# Altium footprint library Universal Device.PcbLib: 24 footprints (part 1 of 2)
Each footprint in its own frame and in the unit in brackets; x right, y up, seen from the top. Pads: shape width x height; smd on the part's side, far side on the other; paste and mask are expansions set on the pad; w line width, h text height; cw(c..) or ccw(c..) is an arc to the next point about the centre after c.
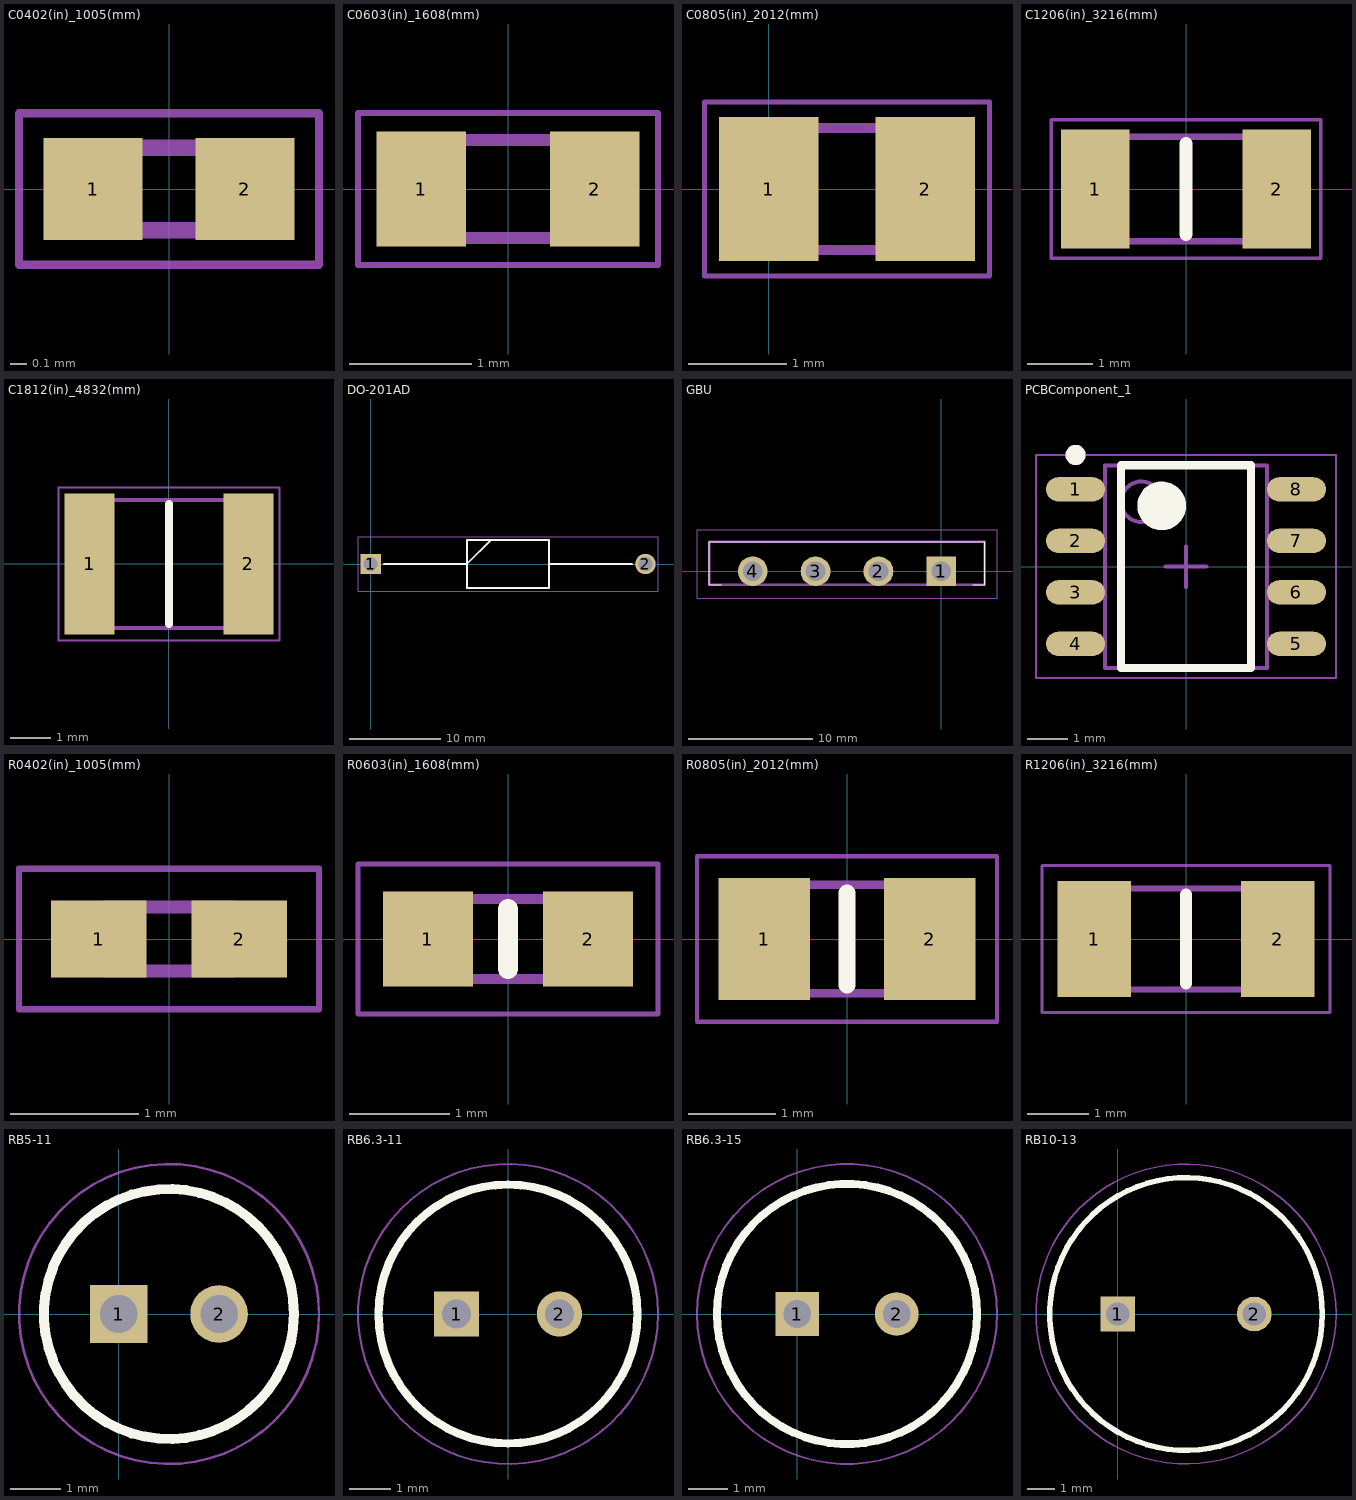
[diagram p0: the footprints below, top view; thin cyan lines are the x and y axes]

## C0402(in)_1005(mm) [mm]
pads (2):
  rect 0.6x0.62 smd: 1(-0.46,0) 2(0.46,0)
Mechanical 13:
  lines w0.1: -0.5,-0.25 -0.5,0.25 0.5,0.25 0.5,-0.25 -0.5,-0.25
Mechanical 15:
  lines w0.05: -0.91,-0.46 -0.91,0.46 0.91,0.46 0.91,-0.46 -0.91,-0.46
3D body "GRM155R61C225KE44D.stp": height 0.55, standoff 0, extent -0.5,-0.25 0.5,0.25

## C0603(in)_1608(mm) [mm]
pads (2):
  rect 0.73x0.94 smd: 1(-0.71,0) 2(0.71,0)
Mechanical 13:
  lines w0.1: -0.8,-0.4 0.8,-0.4 0.8,0.4 -0.8,0.4 -0.8,-0.4
Mechanical 15:
  lines w0.05: -1.225,-0.62 1.225,-0.62 1.225,0.62 -1.225,0.62 -1.225,-0.62
3D body "CL10A105KB8NNNC.stp": height 0.9, standoff 0, extent -0.8,-0.4 0.8,0.4

## C0805(in)_2012(mm) [mm]
pads (2):
  rect 1.02x1.47 smd: 1(0,0) 2(1.6,0)
Mechanical 13:
  lines w0.1: -0.2,-0.625 -0.2,0.625 1.8,0.625 1.8,-0.625 -0.2,-0.625
Mechanical 15:
  lines w0.05: -0.66,-0.89 -0.66,0.89 2.26,0.89 2.26,-0.89 -0.66,-0.89
3D body "C0805C752G3GACTU.stp": height 0.88, standoff 0, extent -0.3,-0.73 1.9,0.72

## C1206(in)_3216(mm) [mm]
pads (2):
  rect 1.05x1.82 smd: 1(-1.39,0) 2(1.39,0)
Top Overlay:
  lines w0.2: 0,-0.7 0,0.7
Mechanical 13:
  lines w0.1: -1.6,-0.8 1.6,-0.8 1.6,0.8 -1.6,0.8 -1.6,-0.8
Mechanical 15:
  lines w0.05: -2.065,-1.06 2.065,-1.06 2.065,1.06 -2.065,1.06 -2.065,-1.06
3D body "CL31B106KBHNNNE.stp": height 1.8, standoff 0, extent -1.6,-0.8 1.6,0.8

## C1812(in)_4832(mm) [mm]
pads (2):
  rect 1.25x3.52 smd: 1(-1.98,0) 2(1.98,0)
Top Overlay:
  lines w0.2: 0,-1.5 0,1.5
Mechanical 13:
  lines w0.1: -2.25,-1.6 -2.25,1.6 2.25,1.6 2.25,-1.6 -2.25,-1.6
Mechanical 15:
  lines w0.05: -2.755,-1.91 -2.755,1.91 2.755,1.91 2.755,-1.91 -2.755,-1.91
3D body "C1812C204KAGLCAUTO.stp": height 0, standoff -3.5, extent -2.4,-2.214 2.4,2.286

## DO-201AD [mm]
pads (2):
  rect 2.25x2.25 hole 1.5: 1(0,0)
  round 2.25 hole 1.5: 2(30.2,0)
Top Overlay:
  lines w0.2: 1.475,0 10.59,0 13.24,2.65 ; 19.61,0 28.725,0 ; 10.59,-2.65 19.61,-2.65 19.61,2.65 10.59,2.65 10.59,-2.65
Mechanical 13:
  lines w0.1: 0,0 10.59,0 13.24,2.65 ; 19.61,0 30.2,0 ; 10.59,-2.65 19.61,-2.65 19.61,2.65 10.59,2.65 10.59,-2.65
Mechanical 15:
  lines w0.05: -1.375,-3 31.575,-3 31.575,3 -1.375,3 -1.375,-3
3D body "1N5408-G.stp": height 5.6, standoff -5.6, extent -0.655,-2.797 30.88,2.797

## GBU [mm]
pads (4):
  rect 2.4x2.4 hole 1.6: 1(0,0)
  round 2.4 hole 1.6: 2(-5.08,0) 3(-10.16,0) 4(-15.24,0)
Top Overlay:
  lines w0.1: -17.78,-1.08 -18.745,-1.08 -18.745,2.37 3.505,2.37 3.505,-1.08 2.54,-1.08
Mechanical 13:
  lines w0.2: -18.745,-1.08 -18.745,2.37 3.505,2.37 3.505,-1.08 -18.745,-1.08
Mechanical 15:
  lines w0.1: -19.745,-2.2 -19.745,3.37 4.505,3.37 4.505,-2.2 -19.745,-2.2
3D body "GBU8K-BP.stp": height 18.9, standoff -5, extent -18.745,-1.08 3.505,2.37

## PCBComponent_1 [mm]
pads (8):
  oval 1.45x0.6 smd: 1(-2.725,1.905) 2(-2.725,0.635) 3(-2.725,-0.635) 4(-2.725,-1.905) 5(2.725,-1.905) 6(2.725,-0.635) 7(2.725,0.635) 8(2.725,1.905)
Top Overlay:
  circle w0.25: c-2.725,2.755 r0.125
  circle w0.6: c-0.6,1.5 r0.3
  lines w0.2: -1.6,-2.5 -1.6,2.5 1.6,2.5 1.6,-2.5 -1.6,-2.5
Bottom 3D Body:
  lines w0.05: -3.7,-2.75 -3.7,2.75 3.7,2.75 3.7,-2.75 -3.7,-2.75
  lines w0.1: -0.5,0 0.5,0 ; 0,-0.5 0,0.5
Top Assembly:
  circle w0.1: c-1.1,1.6 r0.5
  lines w0.1: -2,-2.5 -2,2.5 2,2.5 2,-2.5 -2,-2.5
3D body "SOIC127P600X175-8N.step": height 1.75, standoff 0, extent -3,-2.5 3,2.5

## R0402(in)_1005(mm) [mm]
pads (2):
  rect 0.75x0.6 smd: 1(-0.55,0) 2(0.55,0)
Mechanical 13:
  lines w0.1: -0.5,-0.25 0.5,-0.25 0.5,0.25 -0.5,0.25 -0.5,-0.25
Mechanical 15:
  lines w0.05: -1.175,-0.55 1.175,-0.55 1.175,0.55 -1.175,0.55 -1.175,-0.55
3D body "RC0402FR-0710KL.stp": height 0.4, standoff 0, extent -0.5,-0.25 0.5,0.25

## R0603(in)_1608(mm) [mm]
pads (2):
  rect 0.9x0.95 smd: 1(-0.8,0) 2(0.8,0)
Top Overlay:
  lines w0.2: 0,-0.3 0,0.3
Mechanical 13:
  lines w0.1: -0.8,-0.4 0.8,-0.4 0.8,0.4 -0.8,0.4 -0.8,-0.4
Mechanical 15:
  lines w0.05: -1.5,-0.75 1.5,-0.75 1.5,0.75 -1.5,0.75 -1.5,-0.75
3D body "CHV0603-FX-1003EST.stp": height 0.55, standoff 0, extent -0.8,-0.4 0.8,0.4

## R0805(in)_2012(mm) [mm]
pads (2):
  rect 1.05x1.4 smd: 1(-0.95,0) 2(0.95,0)
Top Overlay:
  lines w0.2: 0,-0.525 0,0.525
Mechanical 13:
  lines w0.1: -1,-0.625 1,-0.625 1,0.625 -1,0.625 -1,-0.625
Mechanical 15:
  lines w0.05: -1.725,-0.95 1.725,-0.95 1.725,0.95 -1.725,0.95 -1.725,-0.95
3D body "ERJ-6GEYJ2R2V.stp": height 0.7, standoff 0, extent -1,-0.625 1,0.625

## R1206(in)_3216(mm) [mm]
pads (2):
  rect 1.2x1.9 smd: 1(-1.5,0) 2(1.5,0)
Top Overlay:
  lines w0.2: 0,-0.725 0,0.725
Mechanical 13:
  lines w0.1: -1.6,-0.825 1.6,-0.825 1.6,0.825 -1.6,0.825 -1.6,-0.825
Mechanical 15:
  lines w0.05: -2.35,-1.2 2.35,-1.2 2.35,1.2 -2.35,1.2 -2.35,-1.2
3D body "PCS1206FR0050ET.stp": height 0.68, standoff 0, extent -1.6,-0.825 1.6,0.825

## RB5-11 [mm]
pads (2):
  rect 1.15x1.15 hole 0.75: 1(0,0)
  round 1.15 hole 0.75: 2(2,0)
Top Overlay:
  circle w0.2: c1,0 r2.5
Mechanical 13:
  circle w0.1: c1,0 r2.5
Mechanical 15:
  circle w0.05: c1,0 r3
3D body "EEU-FC1E470.stp": height 12, standoff -10, extent -1.75,-2.75 3.75,2.75

## RB6.3-11 [mm]
pads (2):
  rect 1.1x1.1 hole 0.7: 1(-1.25,0)
  round 1.1 hole 0.7: 2(1.25,0)
Top Overlay:
  circle w0.2: c0,0 r3.15
Mechanical 13:
  circle w0.1: c0,0 r3.15
Mechanical 15:
  circle w0.05: c0,0 r3.65
3D body "ESL225M250AE3AA.stp": height 12.52, standoff -19.99, extent -3.4,-3.4 3.4,3.411

## RB6.3-15 [mm]
pads (2):
  rect 1.1x1.1 hole 0.7: 1(0,0)
  round 1.1 hole 0.7: 2(2.5,0)
Top Overlay:
  circle w0.2: c1.25,0 r3.275
Mechanical 13:
  circle w0.1: c1.25,0 r3.275
Mechanical 15:
  circle w0.05: c1.25,0 r3.775
3D body "ELXZ350ELL101MF15D.stp": height 16.5, standoff -10, extent -2.15,-3.4 4.65,3.4

## RB10-13 [mm]
pads (2):
  rect 1.275x1.275 hole 0.85: 1(0,0)
  round 1.275 hole 0.85: 2(5,0)
Top Overlay:
  circle w0.2: c2.5,0 r5
Mechanical 13:
  circle w0.1: c2.5,0 r5
Mechanical 15:
  circle w0.05: c2.5,0 r5.5
3D body "35SEK330M.stp": height 13, standoff -10, extent -2.75,-5.247 7.75,5.247